# EAGLE library part 615096243321 (library WR-MJ)
WR-MJ Cat 3 Modular Jacks – THT Characteristics Shieldingless and Shielded with EMI-Spring option Optional LEDs in various sequences Vertical and Horizontal orientation Stacked and assembled configurations Tray Packaging Properties PoE++ Compatible up to 100W (IEEE 802.3bt) UL and cULus-Certified UL94-V0 insulator material Ethernet Category 3 – Category 5 under conditions Applications Networks Internet of Things mart Buildings <https://www.we-online.com/components/media/o863419v209%20multi-WR-MJTH-615002138421.jpg> Details see: www.we-online.com/en/components/products/WR_MJ_MODULAR_JACKS_THT <www.we-online.com/catalog/WR_MJ_MODULAR_JACKS_THT/?utm_source=eagle_model&utm_medium=description_link&utm_campaign=eisos_eagle> Updated by Yingchun Shan 2020-01-06 2020(C) Würth Elektronik
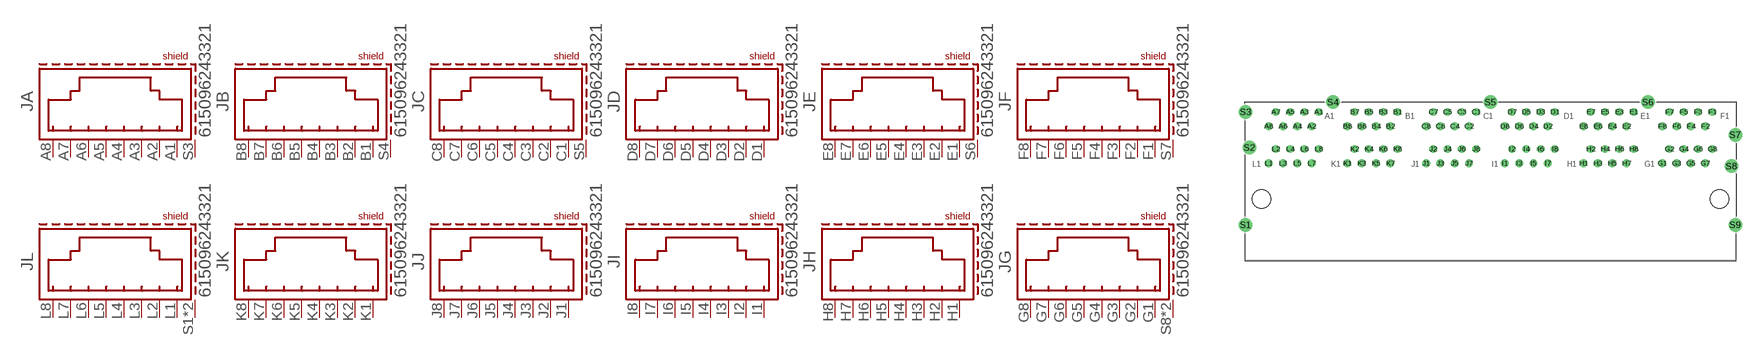
[diagram p23: symbol with the pads of 615096243321; footprint 615096243321]

Designator prefix J; gates A=8P8C_S B=8P8C_S C=8P8C_S E=8P8C_S F=8P8C_S G=8P8C_S L=8P8C_S D=8P8C_S1 H=8P8C_S1 I=8P8C_S1 J=8P8C_S1 K=8P8C_S1

## 615096243321 (APPLICATION-SYSTEM: CAT 3; DATASHEET-URL: https://www.we-online.com/redexpert/spec/615096243321?ae; EMI: Yes; LED: /; MOUNT: THT; PART-NUMBER: 615096243321; SIZE: Horizontal; TAB: Up & Down; VALUE: 615096243321; XPXC: 8P8C)  [615096243321]
A1  A:1  pas
A2  A:2  pas
A3  A:3  pas
A4  A:4  pas
A5  A:5  pas
A6  A:6  pas
A7  A:7  pas
A8  A:8  pas
B1  B:1  pas
B2  B:2  pas
B3  B:3  pas
B4  B:4  pas
B5  B:5  pas
B6  B:6  pas
B7  B:7  pas
B8  B:8  pas
C1  C:1  pas
C2  C:2  pas
C3  C:3  pas
C4  C:4  pas
C5  C:5  pas
C6  C:6  pas
C7  C:7  pas
C8  C:8  pas
D1  D:1  pas
D2  D:2  pas
D3  D:3  pas
D4  D:4  pas
D5  D:5  pas
D6  D:6  pas
D7  D:7  pas
D8  D:8  pas
E1  E:1  pas
E2  E:2  pas
E3  E:3  pas
E4  E:4  pas
E5  E:5  pas
E6  E:6  pas
E7  E:7  pas
E8  E:8  pas
F1  F:1  pas
F2  F:2  pas
F3  F:3  pas
F4  F:4  pas
F5  F:5  pas
F6  F:6  pas
F7  F:7  pas
F8  F:8  pas
G1  G:1  pas
G2  G:2  pas
G3  G:3  pas
G4  G:4  pas
G5  G:5  pas
G6  G:6  pas
G7  G:7  pas
G8  G:8  pas
H1  H:1  pas
H2  H:2  pas
H3  H:3  pas
H4  H:4  pas
H5  H:5  pas
H6  H:6  pas
H7  H:7  pas
H8  H:8  pas
I1  I:1  pas
I2  I:2  pas
I3  I:3  pas
I4  I:4  pas
I5  I:5  pas
I6  I:6  pas
I7  I:7  pas
I8  I:8  pas
J1  J:1  pas
J2  J:2  pas
J3  J:3  pas
J4  J:4  pas
J5  J:5  pas
J6  J:6  pas
J7  J:7  pas
J8  J:8  pas
K1  K:1  pas
K2  K:2  pas
K3  K:3  pas
K4  K:4  pas
K5  K:5  pas
K6  K:6  pas
K7  K:7  pas
K8  K:8  pas
L1  L:1  pas
L2  L:2  pas
L3  L:3  pas
L4  L:4  pas
L5  L:5  pas
L6  L:6  pas
L7  L:7  pas
L8  L:8  pas
S1  L:SHIELD  pas
S2  L:SHIELD  pas
S3  A:SHIELD  pas
S4  B:SHIELD  pas
S5  C:SHIELD  pas
S6  E:SHIELD  pas
S7  F:SHIELD  pas
S8  G:SHIELD  pas
S9  G:SHIELD  pas

## Footprint 615096243321 (pad centres in mm)
WR-MJ Horizontal Shielded 2 x 6 Stacked Port with EMI Panel Finger 8P8C Modular Jack Tab Up & Down, 96 Pins
drill 0.89: A1 -30.48,12.27; A2 -31.75,9.73; A3 -33.02,12.27; A4 -34.29,9.73; A5 -35.56,12.27; A6 -36.83,9.73; A7 -38.1,12.27; A8 -39.37,9.73; B1 -16.51,12.27; B2 -17.78,9.73; B3 -19.05,12.27; B4 -20.32,9.73; B5 -21.59,12.27; B6 -22.86,9.73; B7 -24.13,12.27; B8 -25.4,9.73; C1 -2.54,12.27; C2 -3.81,9.73; C3 -5.08,12.27; C4 -6.35,9.73; C5 -7.62,12.27; C6 -8.89,9.73; C7 -10.16,12.27; C8 -11.43,9.73; D1 11.43,12.27; D2 10.16,9.73; D3 8.89,12.27; D4 7.62,9.73; D5 6.35,12.27; D6 5.08,9.73; D7 3.81,12.27; D8 2.54,9.73; E1 25.4,12.27; E2 24.13,9.73; E3 22.86,12.27; E4 21.59,9.73; E5 20.32,12.27; E6 19.05,9.73; E7 17.78,12.27; E8 16.51,9.73; F1 39.37,12.27; F2 38.1,9.73; F3 36.83,12.27; F4 35.56,9.73; F5 34.29,12.27; F6 33.02,9.73; F7 31.75,12.27; F8 30.48,9.73; G1 30.48,3.15; G2 31.75,5.69; G3 33.02,3.15; G4 34.29,5.69; G5 35.56,3.15; G6 36.83,5.69; G7 38.1,3.15; G8 39.37,5.69; H1 16.51,3.15; H2 17.78,5.69; H3 19.05,3.15; H4 20.32,5.69; H5 21.59,3.15; H6 22.86,5.69; H7 24.13,3.15; H8 25.4,5.69; I1 2.54,3.15; I2 3.81,5.69; I3 5.08,3.15; I4 6.35,5.69; I5 7.62,3.15; I6 8.89,5.69; I7 10.16,3.15; I8 11.43,5.69; J1 -11.43,3.15; J2 -10.16,5.69; J3 -8.89,3.15; J4 -7.62,5.69; J5 -6.35,3.15; J6 -5.08,5.69; J7 -3.81,3.15; J8 -2.54,5.69; K1 -25.4,3.15; K2 -24.13,5.69; K3 -22.86,3.15; K4 -21.59,5.69; K5 -20.32,3.15; K6 -19.05,5.69; K7 -17.78,3.15; K8 -16.51,5.69; L1 -39.37,3.15; L2 -38.1,5.69; L3 -36.83,3.15; L4 -35.56,5.69; L5 -34.29,3.15; L6 -33.02,5.69; L7 -31.75,3.15; L8 -30.48,5.69
drill 1.6: S1 -43.435,-7.77; S2 -42.76,5.94; S3 -43.435,12.27; S4 -27.94,14; S5 0,14; S6 27.94,14; S7 43.435,8.2; S8 42.76,2.64; S9 43.435,-7.77
hole 3.25 at -40.64,-3.2
hole 3.25 at 40.64,-3.2